# EAGLE library part LTC3862?* (library kiks-ic)
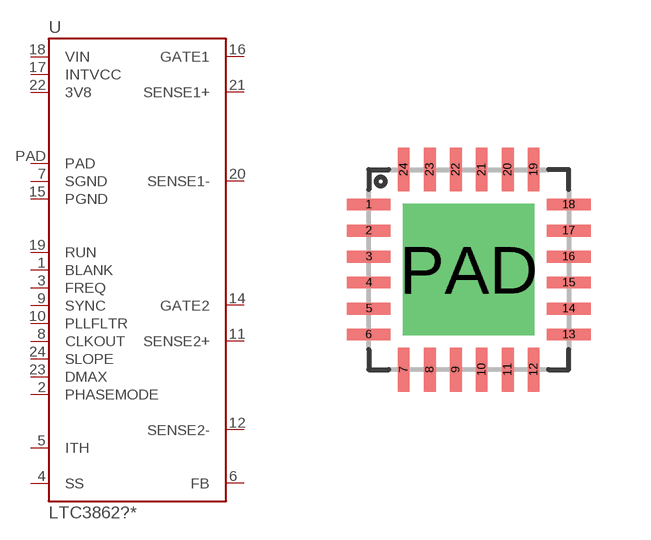
[diagram p6: symbol with the pads of QFN24-0.65; footprint QFN24-0.65]

Designator prefix U

## LTC3862UH, LTC3862UH-1, LTC3862UH-2  [QFN24-0.65]
1  BLANK
2  PHASEMODE
3  FREQ
4  SS
5  ITH
6  FB  in
7  SGND
8  CLKOUT
9  SYNC
10  PLLFLTR
11  SENSE2+  in
12  SENSE2-  in
14  GATE2
15  PGND
16  GATE1
17  INTVCC
18  VIN  in
19  RUN
20  SENSE1-  in
21  SENSE1+  in
22  3V8
23  DMAX
24  SLOPE
PAD  PAD

## Footprint QFN24-0.65 (pad centres in mm)
smd 1.1 x 0.3: 1 -2.5,1.625; 2 -2.5,0.975; 3 -2.5,0.325; 4 -2.5,-0.325; 5 -2.5,-0.975; 6 -2.5,-1.625; 13 2.5,-1.625; 14 2.5,-0.975; 15 2.5,-0.325; 16 2.5,0.325; 17 2.5,0.975; 18 2.5,1.625
smd 0.3 x 1.1: 7 -1.625,-2.5; 8 -0.975,-2.5; 9 -0.325,-2.5; 10 0.325,-2.5; 11 0.975,-2.5; 12 1.625,-2.5; 19 1.625,2.5; 20 0.975,2.5; 21 0.325,2.5; 22 -0.325,2.5; 23 -0.975,2.5; 24 -1.625,2.5
drill 2.1 pad 3.3 square: PAD 0,0